# Altium schematic symbol library RJ45.Schlib: 1 symbol
Pins are listed as number, name and electrical type; pins without a type are passive.

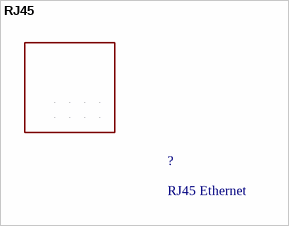
[diagram p0: symbol RJ45]

## RJ45
designator ?, comment RJ45 Ethernet
footprint RJ45-SHIELD1
pins: 1 P$1, 2 P$2, 3 P$3, 4 P$4, 5 P$5, 6 P$6, 7 P$7, 8 P$8